# Altium schematic symbol library MOSFET,N Ch,40V,100A.Schlib: 1 symbol
Pins are listed as number, name and electrical type; pins without a type are passive.

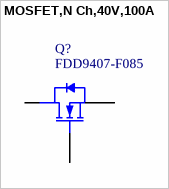
[diagram p0: symbol MOSFET,N Ch,40V,100A]

## MOSFET,N Ch,40V,100A
designator Q?, comment FDD9407-F085
N-Channel 40V 100A (Tc) 227W (Tc) Surface Mount D-PAK (TO-252)
pins: 1 G, 3 S, 4 D